# EAGLE library part LISA-U2XX (library u-blox)
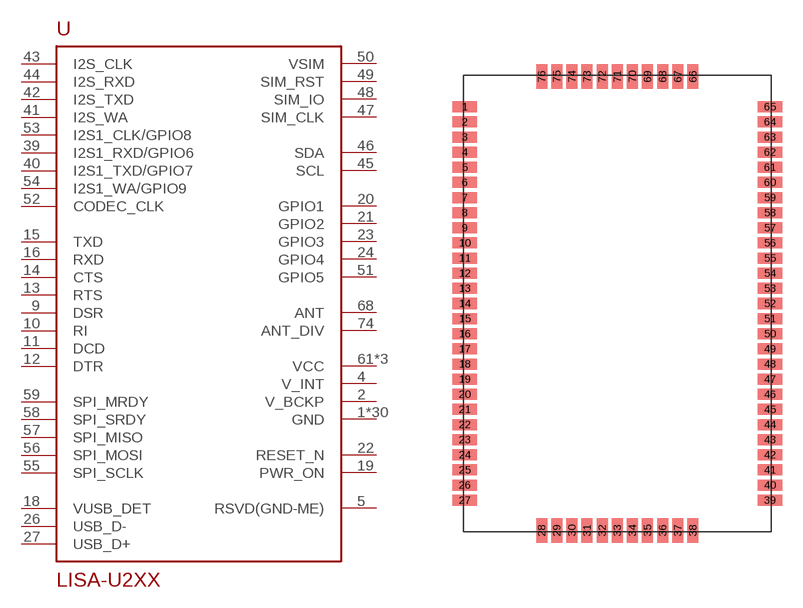
[diagram p0: symbol with the pads of LISA-U; footprint LISA-U]

Designator prefix U

## LISA-U2XX  [LISA-U]
1  GND  pwr
2  V_BCKP  pwr
3  GND  pwr
4  V_INT  out
5  RSVD(GND-ME)
6  GND  pwr
7  GND  pwr
8  GND  pwr
9  DSR  out
10  RI  out
11  DCD  out
12  DTR  in
13  RTS  in
14  CTS  out
15  TXD  in
16  RXD  out
17  GND  pwr
18  VUSB_DET  in
19  PWR_ON  in
20  GPIO1
21  GPIO2
22  RESET_N  in
23  GPIO3
24  GPIO4
25  GND  pwr
26  USB_D-
27  USB_D+
28  GND  pwr
29  GND  pwr
30  GND  pwr
31  GND  pwr
32  GND  pwr
33  GND  pwr
34  GND  pwr
35  GND  pwr
36  GND  pwr
37  GND  pwr
38  GND  pwr
39  I2S1_RXD/GPIO6
40  I2S1_TXD/GPIO7
41  I2S_WA
42  I2S_TXD  out
43  I2S_CLK
44  I2S_RXD  in
45  SCL  out
46  SDA
47  SIM_CLK  out
48  SIM_IO
49  SIM_RST  out
50  VSIM  out
51  GPIO5
52  CODEC_CLK
53  I2S1_CLK/GPIO8
54  I2S1_WA/GPIO9
55  SPI_SCLK  in
56  SPI_MOSI  in
57  SPI_MISO  out
58  SPI_SRDY  out
59  SPI_MRDY  in
60  GND  pwr
61  VCC  pwr
62  VCC  pwr
63  VCC  pwr
64  GND  pwr
65  GND  pwr
66  GND  pwr
67  GND  pwr
68  ANT
69  GND  pwr
70  GND  pwr
71  GND  pwr
72  GND  pwr
73  GND  pwr
74  ANT_DIV  in
75  GND  pwr
76  GND  pwr

## Footprint LISA-U (pad centres in mm)
smd 1.8 x 0.8: 1 -11.1,14.3; 2 -11.1,13.2; 3 -11.1,12.1; 4 -11.1,11; 5 -11.1,9.9; 6 -11.1,8.8; 7 -11.1,7.7; 8 -11.1,6.6; 9 -11.1,5.5; 10 -11.1,4.4; 11 -11.1,3.3; 12 -11.1,2.2; 13 -11.1,1.1; 14 -11.1,0; 15 -11.1,-1.1; 16 -11.1,-2.2; 17 -11.1,-3.3; 18 -11.1,-4.4; 19 -11.1,-5.5; 20 -11.1,-6.6; 21 -11.1,-7.7; 22 -11.1,-8.8; 23 -11.1,-9.9; 24 -11.1,-11; 25 -11.1,-12.1; 26 -11.1,-13.2; 27 -11.1,-14.3; 39 11.1,-14.3; 40 11.1,-13.2; 41 11.1,-12.1; 42 11.1,-11; 43 11.1,-9.9; 44 11.1,-8.8; 45 11.1,-7.7; 46 11.1,-6.6; 47 11.1,-5.5; 48 11.1,-4.4; 49 11.1,-3.3; 50 11.1,-2.2; 51 11.1,-1.1; 52 11.1,0; 53 11.1,1.1; 54 11.1,2.2; 55 11.1,3.3; 56 11.1,4.4; 57 11.1,5.5; 58 11.1,6.6; 59 11.1,7.7; 60 11.1,8.8; 61 11.1,9.9; 62 11.1,11; 63 11.1,12.1; 64 11.1,13.2; 65 11.1,14.3
smd 0.8 x 1.8: 28 -5.5,-16.5; 29 -4.4,-16.5; 30 -3.3,-16.5; 31 -2.2,-16.5; 32 -1.1,-16.5; 33 0,-16.5; 34 1.1,-16.5; 35 2.2,-16.5; 36 3.3,-16.5; 37 4.4,-16.5; 38 5.5,-16.5; 66 5.5,16.5; 67 4.4,16.5; 68 3.3,16.5; 69 2.2,16.5; 70 1.1,16.5; 71 0,16.5; 72 -1.1,16.5; 73 -2.2,16.5; 74 -3.3,16.5; 75 -4.4,16.5; 76 -5.5,16.5